# EAGLE library part 43650-0600 (library 43650-0600)
Micro-Fit 3.0 Right-Angle Header, 3.00mm Pitch, Single Row, 6 Circuits, with Snap-in Plastic Peg PCB Lock, Glow-Wire Capable, Black Source: Datasheet <https://www.molex.com/pdm_docs/sd/436500200_sd.pdf>
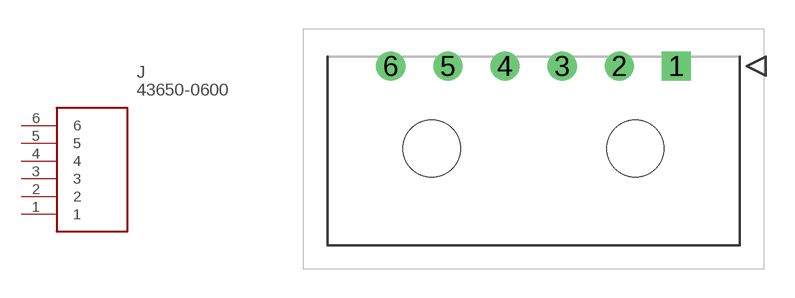
[diagram p0: symbol with the pads of 43650-06(00,01,02); footprint 43650-06(00,01,02)]

Designator prefix J

## 43650-0600 (Description: Micro-Fit 3.0 Right-Angle Header, 3.00mm Pitch, Single Row, 6 Circuits, with Snap-in Plastic Peg PCB Lock, Glow-Wire Capable, Black; Height: 5.57mm; Manufacturer_Name: Molex; Manufacturer_Part_Number: 43650-0600; Mouser_Part_Number: 538-43650-0600; Mouser_Price-Stock: https://www.mouser.co.uk/ProductDetail/Molex/43650-0600?qs=ISsasQNcYm1ckkdbcRs7fw%3D%3D)  [43650-06(00,01,02)]
1  1
2  2
3  3
4  4
5  5
6  6

## Footprint 43650-06(00,01,02) (pad centres in mm)
43650-06(00,01,02)
drill 1.02 pad 1.52 square: 1 0,0
drill 1.02 pad 1.52: 2 -3,0; 3 -6,0; 4 -9,0; 5 -12,0; 6 -15,0
hole 3 at -2.15,-4.32
hole 3 at -12.85,-4.32